# Altium schematic symbol library discrete.SCHLIB: 6 symbols
Pins are listed as number, name and electrical type; pins without a type are passive.

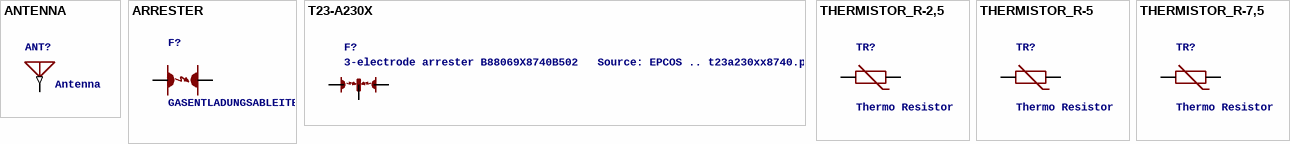
[diagram p0: symbols ANTENNA to THERMISTOR_R-7,5]

## ANTENNA
designator ANT?, comment Antenna
footprint PAD-01
pins: 1 (out)

## ARRESTER
designator F?, comment GASENTLADUNGSABLEITER 90V 10KA   DC-Ãœberschlag: 90V; Spannung, ImpulsÃ¼berschlag: < 600V; Strom, Pulsentlastung, max.: 10kA Source: http://de.farnell.com .. 4025.pdf
footprint EPCOS_N81
pins: 1, 2

## T23-A230X
designator F?, comment 3-electrode arrester B88069X8740B502   Source: EPCOS .. t23a230xx8740.pdf
footprint T23-A230X
pins: 1, 2, 3

## THERMISTOR_R-2,5
designator TR?, comment Thermo Resistor
footprint RS-2,5
pins: 1, 2

## THERMISTOR_R-5
designator TR?, comment Thermo Resistor
footprint R-5
pins: 1, 2

## THERMISTOR_R-7,5
designator TR?, comment Thermo Resistor
footprint R-7,5
pins: 1, 2